# Altium schematic symbol library curgen.SCHLIB: 16 symbols
Pins are listed as number, name and electrical type; pins without a type are passive.

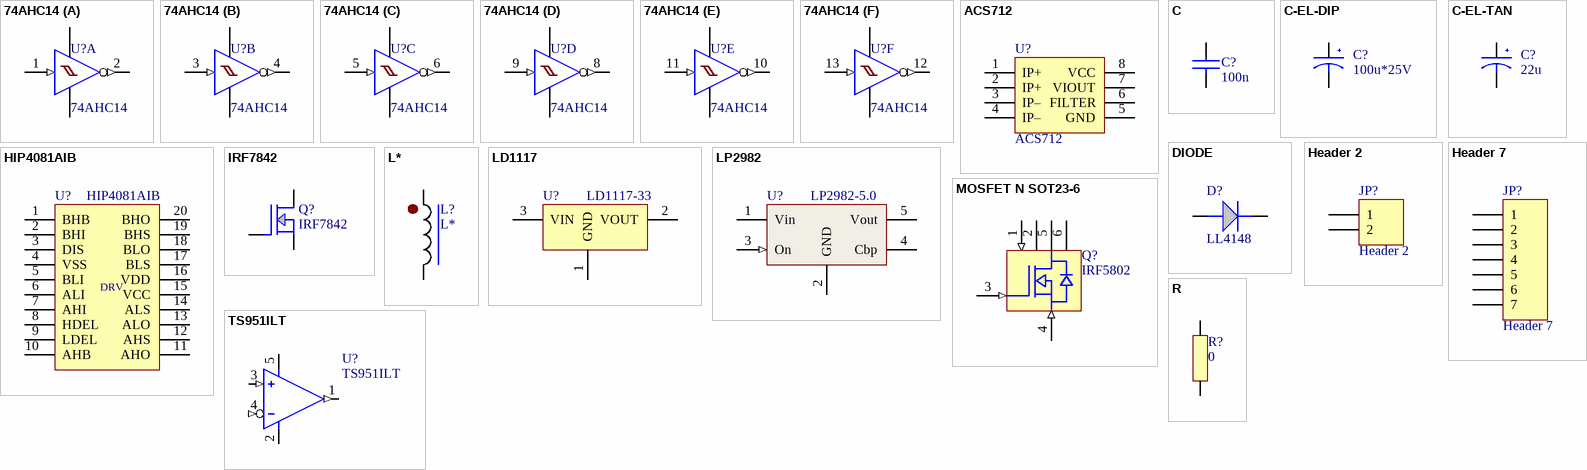
[diagram p0: symbols 74AHC14 to TS951ILT]

## 74AHC14
designator U?
Hex Inverter With Schmitt Trigger; Производитель: *; Допустимая замена: *; Цена: *; PDF файл: *; Температурный диапазон: *
footprint SO14-(SOT-108-1)
footprint SSOP14
part A pins: 1 A (in), 2 Y (out), 7 GND-D (power) hidden to GND-D, 14 VCC (power) hidden to VCC
part B pins: 3 A (in), 4 Y (out), 7 GND-D (power) hidden to GND-D, 14 VCC (power) hidden to VCC
part C pins: 5 A (in), 6 Y (out), 7 GND-D (power) hidden to GND-D, 14 VCC (power) hidden to VCC
part D pins: 7 GND-D (power) hidden to GND-D, 8 Y (out), 9 A (in), 14 VCC (power) hidden to VCC
part E pins: 7 GND-D (power) hidden to GND-D, 10 Y (out), 11 A (in), 14 VCC (power) hidden to VCC
part F pins: 7 GND-D (power) hidden to GND-D, 12 Y (out), 13 A (in), 14 VCC (power) hidden to VCC

## ACS712
designator U?
pins: 1 IP+, 2 IP+, 3 IP–, 4 IP–, 5 GND, 6 FILTER, 7 VIOUT, 8 VCC

## C
designator C?, comment 100n
Производитель: *; Точность: *; Напряжение: *; Тип диэлектрика: *
footprint C-0805
footprint C-0603
footprint C-1206
footprint C-1210
pins: 1, 2

## C-EL-DIP
designator C?, comment 100u*25V
Производитель: *; Точность: *; Напряжение: *; Тип диэлектрика: *
footprint EXR-6.3X11
footprint EXR-10X12.5
footprint ECR-5X11
footprint ECR-6X11
pins: 1 -, 2 +

## C-EL-TAN
designator C?, comment 22u
Производитель: *; Точность: *; Напряжение: *; Тип диэлектрика: *
footprint TANTAL-A
footprint TANTAL-B(3528)
footprint TANTAL-C
footprint TANTAL-D
pins: 1 -, 2 +

## DIODE
designator D?, comment LL4148
footprint SOD-80
footprint SOD-106A
footprint SOD-106B
footprint 1N4007
pins: A, K

## Header 2
designator JP?
Header, 2-Pin; LatestRevisionDate: 17-Jul-2002; LatestRevisionNote: Re-released for DXP Platform.; Publisher: Altium Limited
footprint HDR1X2 (Connector; Header; 2 Position)
signal-integrity model Connector
footprint KLEMMA2
pins: 1, 2

## Header 7
designator JP?
Header, 7-Pin; LatestRevisionDate: 17-Jul-2002; LatestRevisionNote: Re-released for DXP Platform.; Publisher: Altium Limited
footprint HDR1X7 (Connector; Header; 7 Position)
signal-integrity model Connector
pins: 1, 2, 3, 4, 5, 6, 7

## HIP4081AIB
designator U?
footprint SO20-(SOT-163-1)
pins: 1 BHB, 2 BHI, 3 DIS, 4 VSS, 5 BLI, 6 ALI, 7 AHI, 8 HDEL, 9 LDEL, 10 AHB, 11 AHO, 12 AHS, 13 ALO, 14 ALS, 15 VCC, 16 VDD, 17 BLS, 18 BLO, 19 BHS, 20 BHO
text: DRV

## IRF7842
designator Q?
footprint SO8-(SOT-96-1)
pins: 1 SOURCE, 2 SOURCE hidden to 1, 3 SOURCE hidden to 1, 4 GATE, 5 DRAIN, 6 DRAIN hidden to 5, 7 DRAIN hidden to 5, 8 DRAIN hidden to 5

## L*
designator L?
footprint SND-0705
footprint SND-1006
footprint T5026B-630K
pins: 1, 2

## LD1117
designator U?, comment LD1117-33
footprint SOT-223-(SC-73)
pins: 1 GND, 2 VOUT, 3 VIN, 4 VOUT hidden to 2

## LP2982
designator U?, comment LP2982-5.0
50mA Ultra Low-Dropout Regulator; Производитель: *; Допустимая замена: *; Цена: *; PDF файл: *; Температурный диапазон: *
footprint SOT-23-5
pins: 1 Vin (power), 2 GND (power), 3 On (in), 4 Cbp, 5 Vout (power)

## MOSFET N SOT23-6
designator Q?, comment IRF5802
footprint SOT-23-6
footprint SOT-23L-6
pins: 1 D (in), 2 D, 3 G (in), 4 S (in), 5 D, 6 D

## R
designator R?, comment 0
Производитель: *; Точность: *; Тип: *
footprint R-0805
footprint R-0603
footprint R-1206
footprint R-1210
pins: 1, 2

## TS951ILT
designator U?
RAIL TO RAIL single BiCMOS; Производитель: *; Допустимая замена: *; Цена: *; PDF файл: *; Температурный диапазон: *
footprint SOT-23-5
pins: 1 OUT (out), 2 V- (power), 3 +IN (in), 4 -IN (in), 5 V+ (power)